# EAGLE library part MPL3115A2R1 (library circuit_tree)
IC
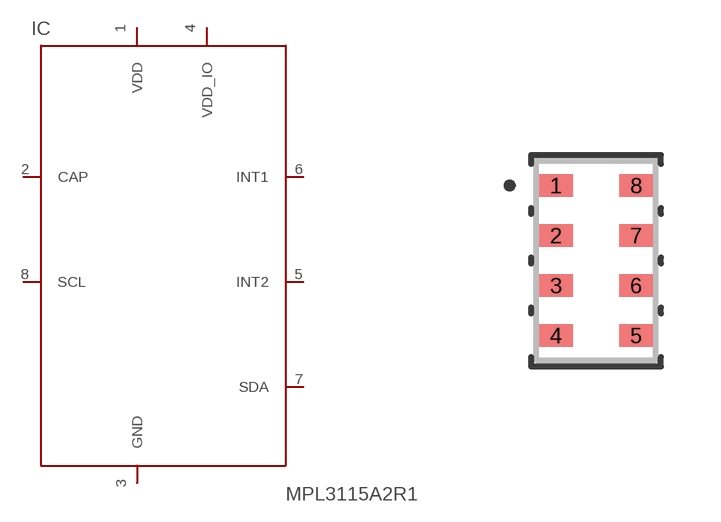
[diagram p4: symbol with the pads of LGA-8; footprint LGA-8]

Designator prefix IC

## MPL3115A2R1  [LGA-8]
1  VDD  pas
2  CAP  pas
3  GND  pas
4  VDD_IO  pas
5  INT2  pas
6  INT1  pas
7  SDA  pas
8  SCL  pas

## Footprint LGA-8 (pad centres in mm)
smd 0.838 x 0.559: 1 -1.003,1.875; 2 -1.003,0.625; 3 -1.003,-0.625; 4 -1.003,-1.875; 5 1.003,-1.875; 6 1.003,-0.625; 7 1.003,0.625; 8 1.003,1.875